# Altium footprint library 1278ЕР1Т - ЛУ.PcbLib: 1 footprints
Each footprint in its own frame and in the unit in brackets; x right, y up, seen from the top. Pads: shape width x height; smd on the part's side, far side on the other; paste and mask are expansions set on the pad; w line width, h text height; cw(c..) or ccw(c..) is an arc to the next point about the centre after c.
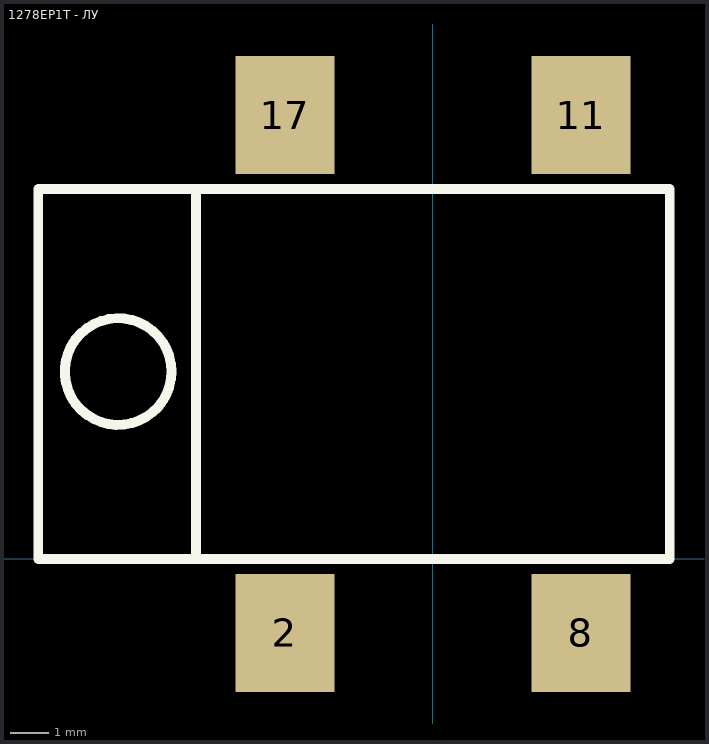
[diagram p0: the footprint, top view; thin cyan lines are the x and y axes]

## 1278ЕР1Т - ЛУ [mil]
pads (4):
  rect 100x120 smd: 2(-150,-75) 8(150,-75) 11(150,450) 17(-150,450)
Top Overlay:
  circle w10: c-319.08,190 r54.08
  lines w10: -235,375 -400,375 -400,0 -240,0 ; -240,0 240,0 240,375 -240,375 -240,0
3D body: height 125, standoff 0, extent -240,0 240,375